# EAGLE library part HUB12MATRIX (library HUB8-12-75)
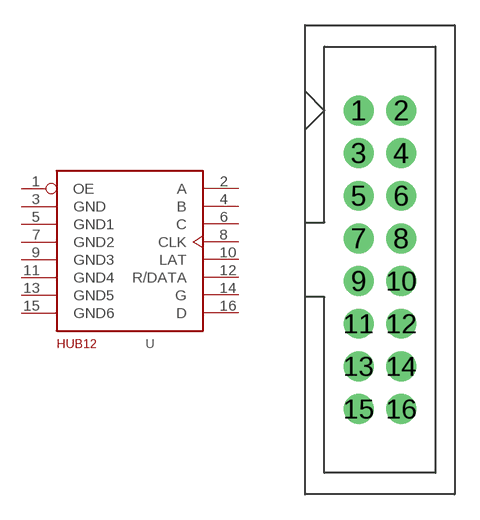
[diagram p0: symbol with the pads of 2X08-IDC; footprint 2X08-IDC]

Designator prefix -

## HUB12MATRIX  [2X08-IDC]
1  OE
2  A
3  GND
4  B
5  GND1
6  C
7  GND2
8  CLK
9  GND3
10  LAT
11  GND4
12  R/DATA
13  GND5
14  G
15  GND6
16  D

## Footprint 2X08-IDC (pad centres in mm)
drill 1 pad 1.778: 1 -1.27,8.89; 2 1.27,8.89; 3 -1.27,6.35; 4 1.27,6.35; 5 -1.27,3.81; 6 1.27,3.81; 7 -1.27,1.27; 8 1.27,1.27; 9 -1.27,-1.27; 10 1.27,-1.27; 11 -1.27,-3.81; 12 1.27,-3.81; 13 -1.27,-6.35; 14 1.27,-6.35; 15 -1.27,-8.89; 16 1.27,-8.89